# Altium footprint library MLT-2.PcbLib: 1 footprints
Each footprint in its own frame and in the unit in brackets; x right, y up, seen from the top. Pads: shape width x height; smd on the part's side, far side on the other; paste and mask are expansions set on the pad; w line width, h text height; cw(c..) or ccw(c..) is an arc to the next point about the centre after c.
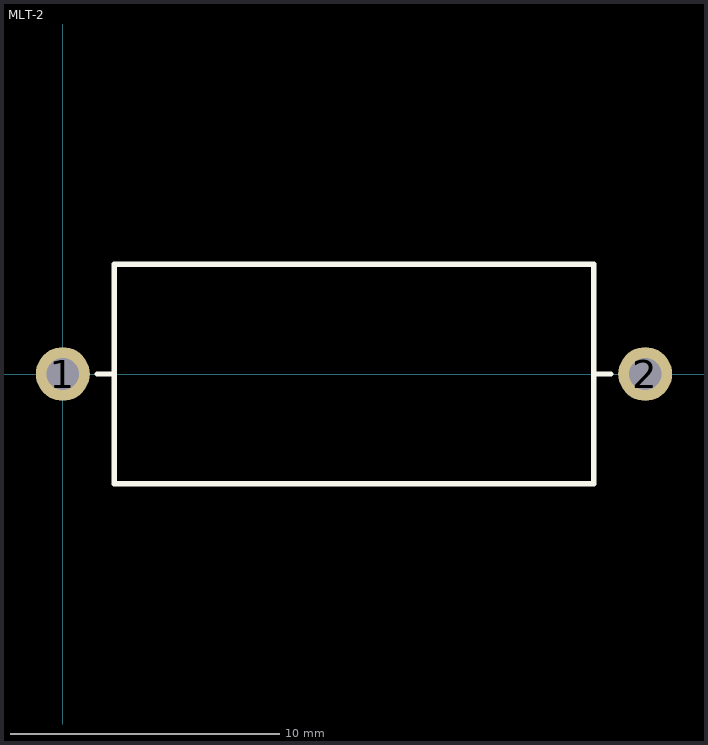
[diagram p0: the footprint, top view; thin cyan lines are the x and y axes]

## MLT-2 [mm]
pads (2):
  round 2 hole 1.2: 1(0,0) 2(21.59,0)
Top Overlay:
  lines w0.2: 1.27,0 1.905,0 ; 20.32,0 19.685,0 ; 19.685,0 19.685,-4.064 1.905,-4.064 1.905,4.064 19.685,4.064 19.685,0